# Altium schematic symbol library Tama_Schlib.SchLib: 34 symbols
Pins are listed as number, name and electrical type; pins without a type are passive.

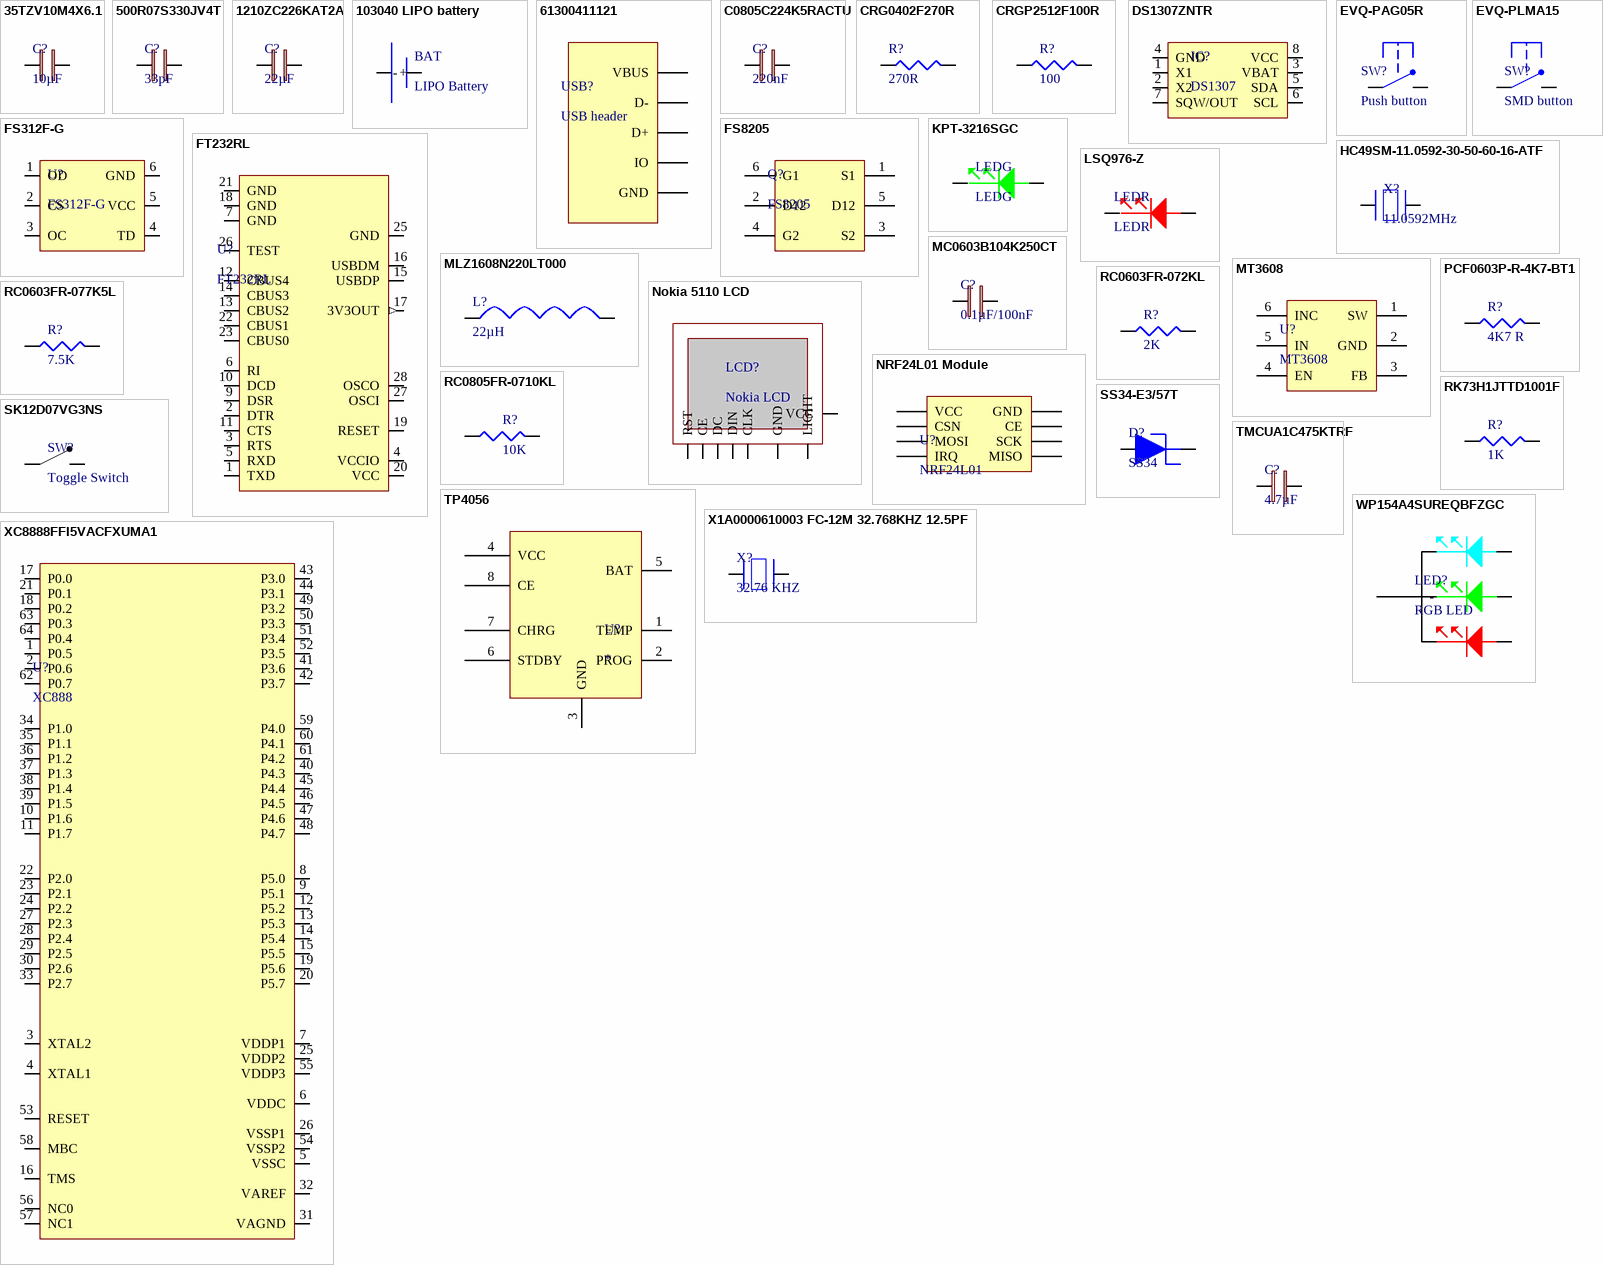
[diagram p0: symbols 35TZV10M4X6.1 to XC8888FFI5VACFXUMA1]

## 35TZV10M4X6.1
designator C?, comment 10µF
RUBYCON - 35TZV10M4X6.1 - KONDENSATOR, 10µF, 35V, RADIAL, SMD; Capacitance: 10uF; Tolerance: 20%; Ripple Current: 90mA; Impedance: 1.45R; Life (Hours): 2000Hour; Supplier 1: Newark; Manufacturer: Rubycon; Manufacturer Part Number: 35TZV10M4X6.1; RoHS: Yes; Category: Aluminum Electrolytic Capacitors; Stock 1: 365; Pricing 1: 5=0,37000, 10=0,25400, 25=0,21600, 50=0,17800, 100=0,15200 (USD); Mount: Surface Mount; Case/Package: Radial; Number of Pins: 2; Min Operating Temperature: -55°C; Max Operating Temperature: 105°C; Ripple Current (AC): 90mA; Packaging: Cut Tape; Package Quantity: 2000; Voltage Rating: 35V; Voltage Rating (DC): 35V; Series: TZV; Construction: Cylindrical; Diameter: 4mm; Height: 6.1mm; Height - Seated (Max): 0.24inch; Radiation Hardening: No; REACH SVHC: No SVHC; Lead Free: Lead Free; RoHS Compliant: Yes; ComponentLink1URL: https://datasheet.ciiva.com/26878/getdatasheetpartid-443596-26878330.pdf?src-supplier=Verical; ComponentLink1Description: https://datasheet.ciiva.com/26878/getdatasheetpartid-443596-26878330.pdf?src-supplier=Verical; ComponentLink2URL: https://datasheet.ciiva.com/17514/e-tzv-17514469.pdf?src-supplier=Avnet+Europe; ComponentLink2Description: https://datasheet.ciiva.com/17514/e-tzv-17514469.pdf?src-supplier=Avnet+Europe; ComponentLink3URL: https://datasheet.ciiva.com/22732/1725814-22732219.pdf?src-supplier=Element14; ComponentLink3Description: https://datasheet.ciiva.com/22732/1725814-22732219.pdf?src-supplier=Element14; Supplier Part Number 1: 08X5009
footprint ELCO (ELCO CAP)
pins: 1, 2

## 500R07S330JV4T
designator C?, comment 33pF
Cap Ceramic 33pF 50V C0G 5% Pad SMD 0402 125°C Ultra Low ESR T/R; Manufacturer: Johanson; Manufacturer Part Number: 500R07S330JV4T; Supplier 1: Newark; RoHS: Yes; Category: Ceramic Capacitors; Stock 1: 2779; Pricing 1: 1=0,22000, 10=0,15400, 25=0,12900, 50=0,10400, 100=0,07900 (USD); Mount: Surface Mount; Case/Package: 0402; Case Code (Metric): 1005; Case Code (Imperial): 0402; Min Operating Temperature: -55°C; Max Operating Temperature: 125°C; Dielectric: C0G; Capacitance: 33pF; Tolerance: 5%; Voltage Rating: 50V; Packaging: Tape and Reel; Voltage Rating (DC): 50V; Termination: SMD/SMT; Package Quantity: 1; Length: 1.02mm; Width: 0.02inch; Height: 0.64mm; Depth: 0.51mm; Thickness: 0.024inch; REACH SVHC: No SVHC; ComponentLink1URL: https://datasheet.ciiva.com/46417/1731432-46417670.pdf?src-supplier=Element14; ComponentLink1Description: https://datasheet.ciiva.com/46417/1731432-46417670.pdf?src-supplier=Element14; Supplier Part Number 1: 51Y5225
footprint 250R07S330JV4T (250R07S330JV4T - 0402 Capacitor)
pins: 1, 2

## 1210ZC226KAT2A
designator C?, comment 22µF
1210 22 uF 10 V ±10 % Tolerance X7R Surface Mount Multilayer Ceramic Capacitor; Manufacturer: Kyocera AVX; Manufacturer Part Number: 1210ZC226KAT2A; Capacitance: 22uF; Tolerance: 10%; Voltage Rating: 10V; Supplier 1: Newark; RoHS: Yes; Category: Ceramic Capacitors; Stock 1: 240; Pricing 1: 1=1,79000, 10=1,46000, 25=1,36000 (USD); Mount: Surface Mount; Case/Package: 1210; Number of Pins: 2; Case Code (Imperial): 1210; Case Code (Metric): 3225; Min Operating Temperature: -55°C; Max Operating Temperature: 125°C; Dielectric: X7R; Packaging: Tape and Reel; Package Quantity: 1; Termination: SMD/SMT; Voltage Rating (DC): 10V; Series: -; Voltage: 10V; Construction: Flat; Length: 3.2mm; Width: 0.098inch; Depth: 2.5mm; Thickness: 0.11inch; Radiation Hardening: No; REACH SVHC: Unknown; Lead Free: Lead Free; RoHS Compliant: Yes; ComponentLink1URL: https://datasheet.ciiva.com/11499/cx7r-11499965.pdf?src-supplier=Avnet; ComponentLink1Description: https://datasheet.ciiva.com/11499/cx7r-11499965.pdf?src-supplier=Avnet; ComponentLink2URL: https://datasheet.ciiva.com/28592/1679506-28592703.pdf?src-supplier=Element14; ComponentLink2Description: https://datasheet.ciiva.com/28592/1679506-28592703.pdf?src-supplier=Element14; ComponentLink3URL: https://datasheet.ciiva.com/5421/cx7r-5421062.pdf?src-supplier=Mouser; ComponentLink3Description: https://datasheet.ciiva.com/5421/cx7r-5421062.pdf?src-supplier=Mouser; ComponentLink4URL: https://datasheet.ciiva.com/14887/cx7r-14887591.pdf?src-supplier=Digi-Key; ComponentLink4Description: https://datasheet.ciiva.com/14887/cx7r-14887591.pdf?src-supplier=Digi-Key; ComponentLink5URL: https://datasheet.ciiva.com/28592/1679506-28592903.pdf?src-supplier=Element14; ComponentLink5Description: https://datasheet.ciiva.com/28592/1679506-28592903.pdf?src-supplier=Element14; ComponentLink6URL: https://datasheet.ciiva.com/14887/cx7r-14887593.pdf?src-supplier=Digi-Key; ComponentLink6Description: https://datasheet.ciiva.com/14887/cx7r-14887593.pdf?src-supplier=Digi-Key; ComponentLink7URL: https://datasheet.ciiva.com/7614/cx7r-7614701.pdf?src-supplier=Digi-Key; ComponentLink7Description: https://datasheet.ciiva.com/7614/cx7r-7614701.pdf?src-supplier=Digi-Key; ComponentLink8URL: https://datasheet.ciiva.com/11499/cx7r-11499966.pdf?src-supplier=Avnet; ComponentLink8Description: https://datasheet.ciiva.com/11499/cx7r-11499966.pdf?src-supplier=Avnet; ComponentLink9URL: https://datasheet.ciiva.com/16301/cx7r-16301534.pdf?src-supplier=Future+Electronics; ComponentLink9Description: https://datasheet.ciiva.com/16301/cx7r-16301534.pdf?src-supplier=Future+Electronics; Supplier Part Number 1: 95W9441
footprint 1210ZC226KAT2A (1210ZC226KAT2A - 1210 SMD capacitor)
pins: 1, 2

## 103040 LIPO battery
designator BAT, comment LIPO Battery
footprint LIPO battery pads
pins: 1 +, 2 -

## 61300411121
designator USB?, comment USB header
CONN HEADER 4 POS 2.54; Manufacturer: Wurth Electronics; Manufacturer Part Number: 61300411121; Number of Contacts: 4; Gender: Male; Connector Type: Male Pin; Pitch: 0.1inch; Supplier 1: RSComponents; RoHS: Yes; Category: Headers and Wire Housings; Stock 1: 380; Pricing 1: 5=0,19600, 250=0,08000, 500=0,07800, 2500=0,07500, 5000=0,07200 (USD); Mount: Through Hole; Contact Material: Copper; Color: Black; Contact Plating: Gold; Number of Rows: 1; Packaging: Bulk; Termination: Solder; Number of Positions: 4; Contact Mating Length: 0.236inch; REACH SVHC: Unknown; RoHS Compliant: Yes; Lead Free: Lead Free; ComponentLink1URL: http://www.farnell.com/cad/1737268.pdf?src-supplier=Element14; ComponentLink1Description: http://www.farnell.com/cad/1737268.pdf?src-supplier=Element14; ComponentLink2URL: https://katalog.we-online.de/em/datasheet/6130xx11121.pdf?src-supplier=Digi-Key; ComponentLink2Description: https://katalog.we-online.de/em/datasheet/6130xx11121.pdf?src-supplier=Digi-Key; Supplier Part Number 1: 8281594
footprint Micro USB - Type B
pins: 1 VBUS, 2 D-, 3 D+, 4 IO, 5 GND

## C0805C224K5RACTU
designator C?, comment 220nF
0805 C 220nF Ceramic Multilayer Capacitor; 50 VDC; +125degC; X7R Dielec; +/-10%; Manufacturer: KEMET; Manufacturer Part Number: C0805C224K5RACTU; Voltage Rating: 50V; Tolerance: 10%; Dissipation Factor: 2.5%; Supplier 1: RSComponents; RoHS: Yes; Category: Ceramic Capacitors; Stock 1: 18500; Pricing 1: 500=0,04800, 2500=0,03900 (USD); Mount: Surface Mount,PCB; Case/Package: 0805; Case Code (Metric): 2012; Case Code (Imperial): 0805; Dielectric Material: Ceramic; Min Operating Temperature: -55°C; Max Operating Temperature: 125°C; Package Quantity: 1; Capacitance: 220nF; Packaging: Tape and Reel; Voltage Rating (DC): 50V; Dielectric: X7R; Termination: SMD/SMT; Voltage: 50V; Series: C; Construction: Flat; Length: 2mm; Width: 0.049inch; Height: 1.1mm; Thickness: 0.055inch; Lead Pitch: 0.75mm; Depth: 1.25mm; Radiation Hardening: No; REACH SVHC: No SVHC; RoHS Compliant: Yes; ComponentLink1URL: https://datasheet.ciiva.com/7842/kem-c1002-x7r-smd-7842582.pdf?src-supplier=Element14; ComponentLink1Description: https://datasheet.ciiva.com/7842/kem-c1002-x7r-smd-7842582.pdf?src-supplier=Element14; ComponentLink2URL: https://datasheet.ciiva.com/18193/getdatasheetpartid-304413-18193686.pdf?src-supplier=Verical; ComponentLink2Description: https://datasheet.ciiva.com/18193/getdatasheetpartid-304413-18193686.pdf?src-supplier=Verical; Supplier Part Number 1: 8029927
footprint C0805C224K5RACTU (C0805C224K5RACTU - 0805 SMD Capacitor)
pins: 1, 2

## CRG0402F270R
designator R?, comment 270R
Res Thick Film 0402 270 Ohm 1% 0.063W(1/16W) ±100ppm/C Pad SMD T/R; Manufacturer: TE Connectivity; Manufacturer Part Number: CRG0402F270R; Temperature Coefficient: 100ppm/°C; Max Power Dissipation: 63mW; Voltage Rating: 50V; Number of Resistors: 1; Supplier 1: Newark; RoHS: Yes; Category: Chip SMD Resistors; Stock 1: 50238; Pricing 1: 1=0,00500, 10=0,00400, 25=0,00400, 50=0,00400, 100=0,00400 (USD); Mount: Surface Mount; Case/Package: 0402; Case Code (Imperial): 0402; Case Code (Metric): 1005; Weight: 2.3E-05oz; Min Operating Temperature: -55°C; Max Operating Temperature: 125°C; Packaging: Tape and Reel; Resistance: 270R; Tolerance: 1%; Resistor Type: Thick Film; Package Quantity: 10000; Number of Terminations: 2; Series: CRG, Neohm; Power Rating: 63mW; Termination: Solder; Voltage Rating (DC): 50V; Technology: THICK FILM; Resistance Tolerance: 1%; Length: 1mm; Width: 0.5mm; Height: 0.35mm; Depth: 0.5mm; RoHS Compliant: Yes; REACH SVHC: No SVHC; ELV: Compliant; ComponentLink1URL: https://datasheet.ciiva.com/11811/0900766b80d0914d-11811952.pdf?src-supplier=RSComponents; ComponentLink1Description: https://datasheet.ciiva.com/11811/0900766b80d0914d-11811952.pdf?src-supplier=RSComponents; ComponentLink2URL: https://datasheet.ciiva.com/12563/eng-ds-1773204-g-12563015.pdf?src-supplier=Mouser; ComponentLink2Description: https://datasheet.ciiva.com/12563/eng-ds-1773204-g-12563015.pdf?src-supplier=Mouser; ComponentLink3URL: https://datasheet.ciiva.com/22706/1610603-22706089.pdf?src-supplier=Element14; ComponentLink3Description: https://datasheet.ciiva.com/22706/1610603-22706089.pdf?src-supplier=Element14; ComponentLink4URL: https://datasheet.ciiva.com/17122/70063020-17122922.pdf?src-supplier=Allied+Electronics; ComponentLink4Description: https://datasheet.ciiva.com/17122/70063020-17122922.pdf?src-supplier=Allied+Electronics; Supplier Part Number 1: 95W7454
footprint CRG0402F (CRG0402F - 0402 SMD Resistor)
pins: 1, 2

## CRGP2512F100R
designator R?, comment 100
Res Thick Film 2512 100 Ohm 1% 2W ±100ppm/C Pad SMD T/R; Manufacturer: TE Connectivity; Manufacturer Part Number: CRGP2512F100R; Resistance: 100R; Temperature Coefficient: 200ppm/°C; Supplier 1: RSComponents; RoHS: Yes; Category: Resistors; Stock 1: 1; Pricing 1: 4000=0,10900, 12000=0,10100, 20000=0,09100 (USD); Case/Package: 2512; Case Code (Imperial): 2512; Case Code (Metric): 6432; Min Operating Temperature: -55°C; Max Operating Temperature: 155°C; Resistor Type: Thick Film; Packaging: Cut Tape; Tolerance: 1%; Max Power Dissipation: 2W; Number of Terminations: 2; RoHS Compliant: Yes; ComponentLink1URL: https://4donline.ihs.com/images/VipMasterIC/IC/TYEL/TYEL-S-A0005460475/TYEL-S-A0005460475-1.pdf?hkey=52A5661711E402568146F3353EA87419&src-supplier=Farnell; ComponentLink1Description: https://4donline.ihs.com/images/VipMasterIC/IC/TYEL/TYEL-S-A0005460475/TYEL-S-A0005460475-1.pdf?hkey=52A5661711E402568146F3353EA87419&src-supplier=Farnell; ComponentLink2URL: https://www.te.com/commerce/DocumentDelivery/DDEController?Action=srchrtrv&amp;DocNm=9-1773463-9&amp;DocType=DS&amp;DocLang=English&src-supplier=Digi-Key; ComponentLink2Description: https://www.te.com/commerce/DocumentDelivery/DDEController?Action=srchrtrv&amp;DocNm=9-1773463-9&amp;DocType=DS&amp;DocLang=English&src-supplier=Digi-Key; ComponentLink3URL: https://4donline.ihs.com/images/VipMasterIC/IC/TYEL/TYEL-S-A0005460475/TYEL-S-A0005460475-1.pdf?hkey=52A5661711E402568146F3353EA87419&src-supplier=Newark; ComponentLink3Description: https://4donline.ihs.com/images/VipMasterIC/IC/TYEL/TYEL-S-A0005460475/TYEL-S-A0005460475-1.pdf?hkey=52A5661711E402568146F3353EA87419&src-supplier=Newark; Supplier Part Number 1: 1764326
footprint CRGP2512 (CRGP 2512 - SMD Resistor)
pins: 1, 2

## DS1307ZNTR
designator IC?, comment DS1307
IC RTC SERIAL 512K IND 8-SOIC; Manufacturer: Maxim; Manufacturer Part Number: DS1307ZNTR; Logic Function: Clock; Time Format: HH:MM:SS; Operating Supply Voltage: 5V; Memory Size: 56B; Max Supply Voltage: 5.5V; Min Supply Voltage: 4.5V; Interface: I2C,Serial,2-Wire; Date Format: YY-MM-DD-dd; Voltage: 7V; Supplier 1: Digi-Key; RoHS: Yes; Category: Real Time Clocks; Mount: Surface Mount; Case/Package: SOIC; Number of Pins: 8; Weight: 0.019048oz; Contact Plating: Tin,Matte; Min Operating Temperature: -40°C; Max Operating Temperature: 85°C; Packaging: Tape and Reel; Package Quantity: 2500; Series: -; Radiation Hardening: No; Lead Free: Lead Free; REACH SVHC: Unknown; ComponentLink1URL: https://datasheet.ciiva.com/1243/ds1307-1243264.pdf?src-supplier=Digi-Key; ComponentLink1Description: https://datasheet.ciiva.com/1243/ds1307-1243264.pdf?src-supplier=Digi-Key; ComponentLink2URL: https://datasheet.ciiva.com/18633/ds1307-18633131.pdf?src-supplier=Digi-Key; ComponentLink2Description: https://datasheet.ciiva.com/18633/ds1307-18633131.pdf?src-supplier=Digi-Key; ComponentLink3URL: https://datasheet.ciiva.com/3304/ds1307-3304460.pdf?src-supplier=Avnet; ComponentLink3Description: https://datasheet.ciiva.com/3304/ds1307-3304460.pdf?src-supplier=Avnet; ComponentLink4URL: https://datasheet.ciiva.com/18633/ds1307-18633132.pdf?src-supplier=Digi-Key; ComponentLink4Description: https://datasheet.ciiva.com/18633/ds1307-18633132.pdf?src-supplier=Digi-Key; ComponentLink5URL: https://datasheet.ciiva.com/28652/1647366-28652551.pdf?src-supplier=Element14; ComponentLink5Description: https://datasheet.ciiva.com/28652/1647366-28652551.pdf?src-supplier=Element14; Supplier Part Number 1: DS1307ZN+T&R-ND
footprint DS1307
pins: 1 X1, 2 X2, 3 VBAT, 4 GND, 5 SDA, 6 SCL, 7 SQW/OUT, 8 VCC

## EVQ-PAG05R
designator SW?, comment Push button
Switch Tactile N.O. SPST Round Button PC Pins 0.02A 15VDC 2.6N Thru-Hole Bulk; Manufacturer: Panasonic; Manufacturer Part Number: EVQ-PAG05R; Mechanical Life: 50000Cycles; Actuator Color: Red; Max Voltage Rating (DC): 15V; Illumination Type: Non-Illuminated; Switch Function: Off-Mom; Actuator Type: Standard; Current Rating: 20mA; Contact Resistance: 50mR; Switch Travel: 0.25mm; Actuator Length: 1.6mm; Supplier 1: RSComponents; RoHS: Yes; Category: Tactile Switches; Stock 1: 1; Pricing 1: 50=0,24100, 500=0,18100 (USD); Mount: Through Hole; Contact Plating: Silver; Min Operating Temperature: -20°C; Max Operating Temperature: 70°C; Throw Configuration: SPST; Packaging: Bulk; Operating Force: 2.6N; Package Quantity: 500; Termination: PC Pin; Voltage Rating (DC): 15V; Max Current Rating: 20mA; Contact Current Rating: 20mA; Electrical Life: 50000Cycles; Orientation: Straight; Series: EVQPA; Length: 6mm; Width: 6mm; Height: 5mm; Depth: 6.5mm; Size: 6mm; Radiation Hardening: No; Lead Free: Lead Free; REACH SVHC: No SVHC; RoHS Compliant: Yes; ComponentLink1URL: https://datasheet.ciiva.com/1634/1520560-1634709.pdf?src-supplier=Farnell; ComponentLink1Description: https://datasheet.ciiva.com/1634/1520560-1634709.pdf?src-supplier=Farnell; ComponentLink2URL: https://datasheet.ciiva.com/25603/0900766b810ad3e5-25603994.pdf?src-supplier=RSComponents; ComponentLink2Description: https://datasheet.ciiva.com/25603/0900766b810ad3e5-25603994.pdf?src-supplier=RSComponents; ComponentLink3URL: https://datasheet.ciiva.com/1532/1520560-1532790.pdf?src-supplier=Element14; ComponentLink3Description: https://datasheet.ciiva.com/1532/1520560-1532790.pdf?src-supplier=Element14; ComponentLink4URL: https://datasheet.ciiva.com/24086/atk0000ce10-33274-24086442.pdf?src-supplier=Mouser; ComponentLink4Description: https://datasheet.ciiva.com/24086/atk0000ce10-33274-24086442.pdf?src-supplier=Mouser; ComponentLink5URL: https://datasheet.ciiva.com/2901/atk0000ce10-2901437.pdf?src-supplier=Digi-Key; ComponentLink5Description: https://datasheet.ciiva.com/2901/atk0000ce10-2901437.pdf?src-supplier=Digi-Key; ComponentLink6URL: https://datasheet.ciiva.com/30192/36atk0000ce10-30192373.pdf?src-supplier=Onlinecomponents.com; ComponentLink6Description: https://datasheet.ciiva.com/30192/36atk0000ce10-30192373.pdf?src-supplier=Onlinecomponents.com; ComponentLink7URL: https://datasheet.ciiva.com/8166/atk0000ce10-8166366.pdf?src-supplier=Avnet; ComponentLink7Description: https://datasheet.ciiva.com/8166/atk0000ce10-8166366.pdf?src-supplier=Avnet; ComponentLink8URL: https://datasheet.ciiva.com/16976/70270700-16976175.pdf?src-supplier=Allied+Electronics; ComponentLink8Description: https://datasheet.ciiva.com/16976/70270700-16976175.pdf?src-supplier=Allied+Electronics; Supplier Part Number 1: 7561543P
footprint Tactile button (thick button)
pins: 1, 2, 3, 4

## EVQ-PLMA15
designator SW?, comment SMD button
Switch Tactile N.O. SPST Round Button J-Bend 0.02A 15VDC 2.6N SMD Embossed Tape; Manufacturer: Panasonic; Manufacturer Part Number: EVQ-PLMA15; Mechanical Life: 200000Cycles; Max Voltage Rating (DC): 15V; Current Rating: 20mA; Contact Resistance: 50mR; Illumination Type: Non-Illuminated,Illuminated; Switch Travel: 0.25mm; Switch Function: Off-Mom; Actuator Type: Standard; Actuator Length: 0.3mm; Supplier 1: Newark; RoHS: Yes; Category: Tactile Switches; Stock 1: 5000; Pricing 1: 1=0,18600, 5000=0,18600, 10000=0,18000, 25000=0,17700, 50000=0,17500 (USD); Mount: Surface Mount; Contact Plating: Gold,Silver; Min Operating Temperature: -20°C; Max Operating Temperature: 70°C; Throw Configuration: SPST; Operating Force: 2.6N; Termination: J-Bend; Voltage Rating (DC): 15V; Packaging: Tape and Reel; Package Quantity: 1; Max Current Rating: 20mA; Electrical Life: 200000Cycles; Orientation: Straight; Contact Current Rating: 20mA; Voltage Rating: 15V; Insulation Resistance: 50MR; Length: 4.9mm; Width: 4.9mm; Height: 1.5mm; Depth: 4.9mm; Radiation Hardening: No; REACH SVHC: No SVHC; Lead Free: Lead Free; ComponentLink1URL: https://datasheet.ciiva.com/8164/atv0000ce2-8164994.pdf?src-supplier=Avnet; ComponentLink1Description: https://datasheet.ciiva.com/8164/atv0000ce2-8164994.pdf?src-supplier=Avnet; ComponentLink2URL: https://datasheet.ciiva.com/16205/atk0000ce3-16205767.pdf?src-supplier=Future+Electronics; ComponentLink2Description: https://datasheet.ciiva.com/16205/atk0000ce3-16205767.pdf?src-supplier=Future+Electronics; ComponentLink3URL: https://datasheet.ciiva.com/17065/70270715-17065721.pdf?src-supplier=Allied+Electronics; ComponentLink3Description: https://datasheet.ciiva.com/17065/70270715-17065721.pdf?src-supplier=Allied+Electronics; ComponentLink4URL: https://datasheet.ciiva.com/2899/atk0000ce3-2899834.pdf?src-supplier=Digi-Key; ComponentLink4Description: https://datasheet.ciiva.com/2899/atk0000ce3-2899834.pdf?src-supplier=Digi-Key; ComponentLink5URL: https://datasheet.ciiva.com/2899/atk0000ce3-2899835.pdf?src-supplier=Digi-Key; ComponentLink5Description: https://datasheet.ciiva.com/2899/atk0000ce3-2899835.pdf?src-supplier=Digi-Key; ComponentLink6URL: https://datasheet.ciiva.com/2899/atk0000ce3-2899836.pdf?src-supplier=Digi-Key; ComponentLink6Description: https://datasheet.ciiva.com/2899/atk0000ce3-2899836.pdf?src-supplier=Digi-Key; ComponentLink7URL: https://datasheet.ciiva.com/26827/getdatasheetpartid-51835-26827884.pdf?src-supplier=Verical; ComponentLink7Description: https://datasheet.ciiva.com/26827/getdatasheetpartid-51835-26827884.pdf?src-supplier=Verical; Supplier Part Number 1: 27AC5577
footprint TACTILE BUTTON - duplicate (Tactile button small)
pins: 1, 2, 3, 4

## FS312F-G
designator U?
Lithium battery protection IC; Category: Protection IC; Case/Package: SOT23-6
footprint SOT95P280X145-6N (SOT23, 6-Leads - FS8205)
pins: 1 OD, 2 CS, 3 OC, 4 TD, 5 VCC, 6 GND

## FS8205
designator Q?
Dual N-Channel Enhancement Mode Power MOSFET; Case/Package: SOT23-6
footprint SOT95P280X145-6N (SOT23, 6-Leads - FS8205)
pins: 1 S1, 2 D12, 3 S2, 4 G2, 5 D12, 6 G1

## FT232RL
designator U?
Usb Interface Ics Usb to Serial Uart 28 Pin SSOP; Manufacturer: FTDI; Min Supply Voltage: 1.8V; Max Supply Voltage: 5.25V; Data Rate: 3Mbps; Number of Drivers: 1; Voltage: 5V; Bandwidth: 48MHz; Nominal Supply Current: 15mA; Supplier 1: RSComponents; Manufacturer Part Number: FT232RL; RoHS: No; Category: Interface ICs; Stock 1: 12; Pricing 1: 1=4,97300, 20=4,11500, 100=3,90000, 500=3,61900, 1000=3,55200 (USD); Mount: Surface Mount; Case/Package: SSOP; Number of Pins: 28; Min Operating Temperature: -40°C; Max Operating Temperature: 85°C; Packaging: Cut Tape; Interface: UART; Number of Receivers: 1; Length: 10.2mm; Width: 5.3mm; Height: 1.75mm; REACH SVHC: No SVHC; Lead Free: Lead Free; ComponentLink1URL: https://datasheet.ciiva.com/14094/ft232r-eng-tds-14094039.pdf?src-supplier=Distrelec; ComponentLink1Description: https://datasheet.ciiva.com/14094/ft232r-eng-tds-14094039.pdf?src-supplier=Distrelec; Supplier Part Number 1: 0406580
footprint SSOP28 (SSOP28 - FTDI)
pins: 1 TXD, 2 DTR, 3 RTS, 4 VCCIO, 5 RXD, 6 RI, 7 GND, 9 DSR, 10 DCD, 11 CTS, 12 CBUS4, 13 CBUS2, 14 CBUS3, 15 USBDP, 16 USBDM, 17 3V3OUT (out), 18 GND, 19 RESET, 20 VCC, 21 GND, 22 CBUS1, 23 CBUS0, 25 GND, 26 TEST, 27 OSCI, 28 OSCO

## HC49SM-11.0592-30-50-60-16-ATF
designator X?, comment 11.0592MHz
Crystal 11.0592MHz 16pF 2-Pin HC-49/U Loose; Manufacturer: Multicomp; Manufacturer Part Number: HC49SM-11.0592-30-50-60-16-ATF; Frequency Stability: 50ppm; Accuracy: 30ppm; Supplier 1: Newark; RoHS: Yes; Category: Crystals; Stock 1: 597; Pricing 1: 1=0,35400, 10=0,34000, 50=0,31600, 100=0,28300, 250=0,26100, 500=0,24300 (USD); Mount: Surface Mount; Case/Package: SMD/SMT; Number of Pins: 2; Min Operating Temperature: -10°C; Max Operating Temperature: 60°C; Load Capacitance: 16pF; Frequency: 11.0592MHz; Frequency Tolerance: 30ppm; Packaging: Cut Tape; REACH SVHC: No SVHC; ComponentLink1URL: https://datasheet.ciiva.com/8049/1661828-8049574.pdf?src-supplier=Element14; ComponentLink1Description: https://datasheet.ciiva.com/8049/1661828-8049574.pdf?src-supplier=Element14; ComponentLink2URL: https://datasheet.ciiva.com/22697/1661828-22697926.pdf?src-supplier=Element14; ComponentLink2Description: https://datasheet.ciiva.com/22697/1661828-22697926.pdf?src-supplier=Element14; Supplier Part Number 1: 33P6975
footprint HC-49/SM (Crystal 11.0592MHz)
pins: 1, 2

## KPT-3216SGC
designator LEDG, comment LEDG
LED Uni-Color SB. Green 565nm 2-Pin Chip LED T/R; Manufacturer: Kingbright; Manufacturer Part Number: KPT-3216SGC; Lens Color: Clear; Lens Style: Rectangular,Diffused,Colorless; Viewing Angle: 120°; Number of LEDs: 1; Luminous Intensity: 12mcd; Forward Voltage: 2.2V; Wavelength: 568nm; Forward Current: 20mA; Supplier 1: RSComponents; RoHS: Yes; Category: LEDs; Stock 1: 1; Pricing 1: 100=0,14200, 500=0,13500, 1000=0,11800, 2000=0,10700, 8000=0,10500 (USD); Mount: Surface Mount; Case/Package: 3216; Number of Pins: 2; Color: Green; Packaging: Tape and Reel; Dominant Wavelength: 568nm; Series: 1206; Radiation Hardening: No; REACH SVHC: No SVHC; RoHS Compliant: Yes; ComponentLink1URL: https://datasheet.ciiva.com/23674/1563720-23674567.pdf?src-supplier=Newark; ComponentLink1Description: https://datasheet.ciiva.com/23674/1563720-23674567.pdf?src-supplier=Newark; Supplier Part Number 1: 8610204P
footprint KPT-3216SGC (SMD led)
pins: 1 +, 2

## LSQ976-Z
designator LEDR, comment LEDR
Led, SMD, Red, 180MCD, 633NM; Manufacturer: Osram Opto; Manufacturer Part Number: LSQ976-Z; Forward Current: 20mA; Viewing Angle: 160°; Forward Voltage: 2V; Lens Style: Rectangular,Diffused,Colorless; Number of LEDs: 1; Supplier 1: Avnet; RoHS: Yes; Category: LEDs; Mount: Surface Mount; Number of Pins: 2; Color: Red; Dominant Wavelength: 633nm; Wavelength: 633nm; Luminous Intensity: 180mcd; Packaging: Cut Tape; REACH SVHC: No SVHC; ComponentLink1URL: https://datasheet.ciiva.com/8060/24682-8060069.pdf?src-supplier=Element14; ComponentLink1Description: https://datasheet.ciiva.com/8060/24682-8060069.pdf?src-supplier=Element14; ComponentLink2URL: https://datasheet.ciiva.com/8060/24682-8060070.pdf?src-supplier=Element14; ComponentLink2Description: https://datasheet.ciiva.com/8060/24682-8060070.pdf?src-supplier=Element14; Supplier Part Number 1: LSQ976-Z
footprint LSQ976-Z (SMD - Led)
pins: 1 +, 2

## MC0603B104K250CT
designator C?, comment 0.1µF/100nF
Cap Ceramic 0.1uF 25V X7R 10% Pad SMD 0603 125C T/R; Manufacturer: Multicomp; Manufacturer Part Number: MC0603B104K250CT; Capacitance: 100nF; Supplier 1: Newark; RoHS: Yes; Category: Ceramic Capacitors; Stock 1: 124000; Pricing 1: 1=0,00300, 4000=0,00300, 8000=0,00300, 20000=0,00300 (USD); Case/Package: 0603; Number of Pins: 2; Case Code (Metric): 1608; Case Code (Imperial): 0603; Min Operating Temperature: -55°C; Max Operating Temperature: 125°C; Tolerance: 10%; Packaging: Cut Tape; Voltage Rating: 25V; Dielectric: X7R; Voltage Rating (DC): 25V; Series: MLCC; Width: 0.8mm; REACH SVHC: Unknown; RoHS Compliant: Yes; ComponentLink1URL: https://datasheet.ciiva.com/22686/1901289-22686277.pdf?src-supplier=Element14; ComponentLink1Description: https://datasheet.ciiva.com/22686/1901289-22686277.pdf?src-supplier=Element14; ComponentLink2URL: https://datasheet.ciiva.com/22648/1901289-22648410.pdf?src-supplier=Element14; ComponentLink2Description: https://datasheet.ciiva.com/22648/1901289-22648410.pdf?src-supplier=Element14; Supplier Part Number 1: 94W8728
footprint MC0603B104K250CT (0603 Capacitor)
pins: 1, 2

## MLZ1608N220LT000
designator L?, comment 22µH
Inductor Power Shielded Multi-Layer 22uH 20% 2MHz Ferrite 0.05A 2.145Ohm DCR 0603 T/R; Manufacturer: TDK; Manufacturer Part Number: MLZ1608N220LT000; Saturation Current: 50mA; DC Resistance (DCR): 2.145R; Current Rating: 300mA; Supplier 1: Arrow Electronics; RoHS: Yes; Category: Fixed Inductors; Stock 1: 3800; Pricing 1: 1=0,15380, 10=0,10450, 25=0,10350, 100=0,08320, 250=0,08240, 500=0,07410, 1000=0,06230, 3000=0,06170 (USD); Mount: Surface Mount; Case/Package: 0603; Case Code (Metric): 1608; Case Code (Imperial): 0603; Core Material: Ferrite; Weight: 0.000141oz; Min Operating Temperature: -55°C; Max Operating Temperature: 125°C; Packaging: Tape and Reel; Inductance: 22uH; Package Quantity: 4000; Tolerance: 20%; Shielding: Shielded; Test Frequency: 2MHz; Termination: SMD/SMT; Length: 0.063inch; Width: 0.031inch; Height: 0.8mm; Height - Seated (Max): 0.037inch; Lead Free: Lead Free; RoHS Compliant: Yes; ComponentLink1URL: https://datasheet.ciiva.com/41832/inductor-commercial-decoupling-mlz-en-41832797.pdf?src-supplier=Digi-Key; ComponentLink1Description: https://datasheet.ciiva.com/41832/inductor-commercial-decoupling-mlz-en-41832797.pdf?src-supplier=Digi-Key; Supplier Part Number 1: MLZ1608N220LT000
footprint MLZ1608 (1608 - Inductor)
pins: 1, 2

## MT3608
designator U?
Voltage regulator; Case/Package: SOT23-6; Category: Voltage regulator
footprint SOT23-6
pins: 1 SW, 2 GND, 3 FB, 4 EN, 5 IN, 6 INC

## Nokia 5110 LCD
designator LCD?, comment Nokia LCD
Nokia 5110 LCD; Category: LCD Display
footprint LCD header
pins: 1 RST, 2 CE, 3 DC, 4 DIN, 5 CLK, 6 VCC, 7 LIGHT, 8 GND

## NRF24L01 Module
designator U?, comment NRF24L01
footprint NRF header (8 pin NRF header)
pins: 1 VCC, 2 GND, 3 CSN, 4 CE, 5 MOSI, 6 SCK, 7 IRQ, 8 MISO

## PCF0603P-R-4K7-BT1
designator R?, comment 4K7 R
Surface Mount Metal Film Resistor, Pcf Series, 4.7 Kohm, 63 Mw, - 0.1%, 75 V Rohs Compliant: Yes; Manufacturer: TT Welwyn; Manufacturer Part Number: PCF0603P-R-4K7-BT1; Power Rating: 63mW; Voltage Rating: 75V; Resistance: 4.7kR; Temperature Coefficient: 25ppm/°C; Case/Category: 0603; Supplier 1: Newark; RoHS: Yes; Category: Chip SMD Resistors; Stock 1: 1027; Pricing 1: 10=0,17900 (USD); Case Code (Imperial): 0603; Case Code (Metric): 1608; Tolerance: 0.1%; Packaging: Cut Tape; Resistor Type: Thin Film; Voltage Rating (DC): 75V; REACH SVHC: No SVHC; ComponentLink1URL: https://datasheet.ciiva.com/7860/3754-7860191.pdf?src-supplier=Element14; ComponentLink1Description: https://datasheet.ciiva.com/7860/3754-7860191.pdf?src-supplier=Element14; ComponentLink2URL: https://datasheet.ciiva.com/6093/3754-6093381.pdf?src-supplier=Farnell; ComponentLink2Description: https://datasheet.ciiva.com/6093/3754-6093381.pdf?src-supplier=Farnell; Supplier Part Number 1: 61M8292
footprint PCF0603 (PCF0603 SMD Resistor)
pins: 1, 2

## RC0603FR-072KL
designator R?, comment 2K
2000Ω ± 1.00% 0.1W ± 100ppm/℃ 0603; Manufacturer: Yageo; Manufacturer Part Number: RC0603FR-072KL; Resistance: 2kR; Tolerance: 1%; Temperature Coefficient: 100ppm/°C; Voltage Rating (DC): 50V; Power Rating: 100mW; Working Voltage: 75V; Supplier 1: RSComponents; RoHS: Yes; Category: Resistors; Stock 1: 1700; Pricing 1: 5000=0,00400, 10000=0,00300, 15000=0,00300, 20000=0,00300 (GBP); Case/Package: 0603; Number of Pins: 2; Case Code (Metric): 1608; Case Code (Imperial): 0603; Min Operating Temperature: -55°C; Max Operating Temperature: 155°C; Resistor Type: Thick Film; Packaging: Tape and Reel; Voltage Rating: 50V; Package Quantity: 1; Number of Terminations: 2; Termination: SMD/SMT; Max Power Dissipation: 100mW; Features: Moisture Resistant; Series: RC; Resistance Tolerance: 1%; Technology: THICK FILM; Construction: Rectangular; Length: 1.6mm; Width: 0.031inch; Height: 0.45mm; Depth: 0.8mm; Lead Free: Lead Free; REACH SVHC: No SVHC; Military Standard: Not; RoHS Compliant: Yes; ComponentLink1URL: https://datasheet.ciiva.com/11808/0900766b80f96399-11808134.pdf?src-supplier=RSComponents; ComponentLink1Description: https://datasheet.ciiva.com/11808/0900766b80f96399-11808134.pdf?src-supplier=RSComponents; ComponentLink2URL: https://datasheet.ciiva.com/22747/443971-22747526.pdf?src-supplier=Element14; ComponentLink2Description: https://datasheet.ciiva.com/22747/443971-22747526.pdf?src-supplier=Element14; ComponentLink3URL: https://datasheet.ciiva.com/2453/pyu-r-int-thick-7-2453913.pdf?src-supplier=Digi-Key; ComponentLink3Description: https://datasheet.ciiva.com/2453/pyu-r-int-thick-7-2453913.pdf?src-supplier=Digi-Key; ComponentLink4URL: https://datasheet.ciiva.com/12555/rc0603-272842-12555257.pdf?src-supplier=Mouser; ComponentLink4Description: https://datasheet.ciiva.com/12555/rc0603-272842-12555257.pdf?src-supplier=Mouser; ComponentLink5URL: https://datasheet.ciiva.com/2453/pyu-r-int-thick-7-2453914.pdf?src-supplier=Digi-Key; ComponentLink5Description: https://datasheet.ciiva.com/2453/pyu-r-int-thick-7-2453914.pdf?src-supplier=Digi-Key; ComponentLink6URL: https://datasheet.ciiva.com/2453/pyu-r-int-thick-7-2453915.pdf?src-supplier=Digi-Key; ComponentLink6Description: https://datasheet.ciiva.com/2453/pyu-r-int-thick-7-2453915.pdf?src-supplier=Digi-Key; Supplier Part Number 1: 1995523
footprint RC0603FR-072KL (Chip Resistor, 2-Leads, Body 1,60x0,80mm, IPC Medium Density)
pins: 1, 2

## RC0603FR-077K5L
designator R?, comment 7.5K
7500Ω ± 1.00% 0.1W ± 100ppm/℃ 0603; Manufacturer: Yageo; Manufacturer Part Number: RC0603FR-077K5L; Resistance: 7.5kR; Power Rating: 100mW; Tolerance: 1%; Voltage Rating: 50V; Temperature Coefficient: 100ppm/°C; Working Voltage: 75V; Supplier 1: Newark; RoHS: Yes; Category: Chip SMD Resistors; Stock 1: 2709; Pricing 1: 1=0,10000, 25=0,01800, 50=0,01300, 100=0,00700 (USD); Case/Package: 0603; Number of Pins: 2; Case Code (Metric): 1608; Case Code (Imperial): 0603; Min Operating Temperature: -55°C; Max Operating Temperature: 155°C; Package Quantity: 1; Packaging: Tape and Reel; Resistor Type: Thick Film; Number of Terminations: 2; Termination: SMD/SMT; Max Power Dissipation: 100mW; Voltage Rating (DC): 50V; Features: Moisture Resistant; Series: RC; Technology: THICK FILM; Construction: Rectangular; Resistance Tolerance: 1%; Length: 1.6mm; Width: 0.031inch; Height: 0.45mm; Depth: 0.8mm; RoHS Compliant: Yes; REACH SVHC: No SVHC; Military Standard: Not; Lead Free: Lead Free; ComponentLink1URL: https://datasheet.ciiva.com/11808/0900766b80f96399-11808401.pdf?src-supplier=RSComponents; ComponentLink1Description: https://datasheet.ciiva.com/11808/0900766b80f96399-11808401.pdf?src-supplier=RSComponents; ComponentLink2URL: https://datasheet.ciiva.com/2519/pyu-r-int-thick-7-2519120.pdf?src-supplier=Digi-Key; ComponentLink2Description: https://datasheet.ciiva.com/2519/pyu-r-int-thick-7-2519120.pdf?src-supplier=Digi-Key; ComponentLink3URL: https://datasheet.ciiva.com/12555/rc0603-272842-12555256.pdf?src-supplier=Mouser; ComponentLink3Description: https://datasheet.ciiva.com/12555/rc0603-272842-12555256.pdf?src-supplier=Mouser; ComponentLink4URL: https://datasheet.ciiva.com/46395/443971-46395019.pdf?src-supplier=Element14; ComponentLink4Description: https://datasheet.ciiva.com/46395/443971-46395019.pdf?src-supplier=Element14; ComponentLink5URL: https://datasheet.ciiva.com/2519/pyu-r-int-thick-7-2519121.pdf?src-supplier=Digi-Key; ComponentLink5Description: https://datasheet.ciiva.com/2519/pyu-r-int-thick-7-2519121.pdf?src-supplier=Digi-Key; ComponentLink6URL: https://datasheet.ciiva.com/2519/pyu-r-int-thick-7-2519122.pdf?src-supplier=Digi-Key; ComponentLink6Description: https://datasheet.ciiva.com/2519/pyu-r-int-thick-7-2519122.pdf?src-supplier=Digi-Key; ComponentLink7URL: https://datasheet.ciiva.com/15189/getdatasheetpartid-326523-15189821.pdf?src-supplier=Verical; ComponentLink7Description: https://datasheet.ciiva.com/15189/getdatasheetpartid-326523-15189821.pdf?src-supplier=Verical; Supplier Part Number 1: 68R0113
footprint RC0603FR-072KL (Chip Resistor, 2-Leads, Body 1,60x0,80mm, IPC Medium Density)
pins: 1, 2

## RC0805FR-0710KL
designator R?, comment 10K
Res SMD 0805 10K 1% 0.125W T.C.100PPM; Manufacturer: Yageo; Manufacturer Part Number: RC0805FR-0710KL; Resistance: 10kR; Power Rating: 125mW; Voltage Rating: 150V; Temperature Coefficient: 100ppm/°C; Supplier 1: RSComponents; RoHS: Yes; Category: Resistors; Stock 1: 435000; Pricing 1: 5000=0,00700 (USD); Case/Package: 0805; Case Code (Imperial): 0805; Case Code (Metric): 2012; Size Code: 0805; Min Operating Temperature: -55°C; Max Operating Temperature: 155°C; Packaging: Tape and Reel; Tolerance: 1%; Package Quantity: 1; Termination: SMD/SMT; Max Power Dissipation: 125mW; Resistor Type: Thick Film; Number of Terminations: 2; Series: RC; Construction: Rectangular; Resistance Tolerance: 1%; Technology: THICK FILM; Features: Moisture Resistant; Length: 2mm; Width: 0.049inch; Height: 0.024inch; Depth: 1.25mm; REACH SVHC: Unknown; Lead Free: Lead Free; Military Standard: Not; RoHS Compliant: Yes; ComponentLink1URL: https://datasheet.ciiva.com/11808/0900766b8106beab-11808151.pdf?src-supplier=RSComponents; ComponentLink1Description: https://datasheet.ciiva.com/11808/0900766b8106beab-11808151.pdf?src-supplier=RSComponents; ComponentLink2URL: https://datasheet.ciiva.com/12669/rc0805-12669688.pdf?src-supplier=Mouser; ComponentLink2Description: https://datasheet.ciiva.com/12669/rc0805-12669688.pdf?src-supplier=Mouser; ComponentLink3URL: https://datasheet.ciiva.com/46447/444164-46447563.pdf?src-supplier=Element14; ComponentLink3Description: https://datasheet.ciiva.com/46447/444164-46447563.pdf?src-supplier=Element14; ComponentLink4URL: https://datasheet.ciiva.com/2456/pyu-r-int-thick-7-2456972.pdf?src-supplier=Digi-Key; ComponentLink4Description: https://datasheet.ciiva.com/2456/pyu-r-int-thick-7-2456972.pdf?src-supplier=Digi-Key; ComponentLink5URL: https://datasheet.ciiva.com/2456/pyu-r-int-thick-7-2456973.pdf?src-supplier=Digi-Key; ComponentLink5Description: https://datasheet.ciiva.com/2456/pyu-r-int-thick-7-2456973.pdf?src-supplier=Digi-Key; ComponentLink6URL: https://datasheet.ciiva.com/2456/pyu-r-int-thick-7-2456974.pdf?src-supplier=Digi-Key; ComponentLink6Description: https://datasheet.ciiva.com/2456/pyu-r-int-thick-7-2456974.pdf?src-supplier=Digi-Key; ComponentLink7URL: https://datasheet.ciiva.com/16747/rc0805-16747087.pdf?src-supplier=Future+Electronics; ComponentLink7Description: https://datasheet.ciiva.com/16747/rc0805-16747087.pdf?src-supplier=Future+Electronics; Supplier Part Number 1: 6185163; Parameter 1: *
footprint RC0805 (Chip Resistor, 2-Leads, Body 2,00x1,25mm, IPC Medium Density)
pins: 1, 2

## RK73H1JTTD1001F
designator R?, comment 1K
1KΩ ±1% 1/8W ±100ppm/℃ 0603; Manufacturer: KOA Speer; Manufacturer Part Number: RK73H1JTTD1001F; Voltage Rating: 75V; Power Rating: 125mW; Resistance: 1kR; Temperature Coefficient: 100ppm/°C; Voltage Rating (DC): 50V; Supplier 1: Arrow Electronics; RoHS: Yes; Category: Resistors; Stock 1: 1; Pricing 1: 1=0,04800 (USD); Case/Package: 0603; Number of Pins: 2; Case Code (Imperial): 0603; Case Code (Metric): 1608; Weight: 0.000811oz; Min Operating Temperature: -55°C; Max Operating Temperature: 155°C; Packaging: Cut Tape; Package Quantity: 5000; Tolerance: 1%; Resistor Type: Thick Film; Termination: SMD/SMT; Series: RK73H; Technology: THICK FILM; Length: 1.6mm; Width: 0.8mm; Height: 0.45mm; Depth: 0.8mm; Military Standard: Not; REACH SVHC: Unknown; Lead Free: Lead Free; RoHS Compliant: Yes; ComponentLink1URL: https://datasheet.ciiva.com/15159/getdatasheetpartid-87490-15159861.pdf?src-supplier=Verical; ComponentLink1Description: https://datasheet.ciiva.com/15159/getdatasheetpartid-87490-15159861.pdf?src-supplier=Verical; ComponentLink2URL: https://datasheet.ciiva.com/48426/rk73h-series-eng-jap-tds-48426519.pdf?src-supplier=Distrelec; ComponentLink2Description: https://datasheet.ciiva.com/48426/rk73h-series-eng-jap-tds-48426519.pdf?src-supplier=Distrelec; Supplier Part Number 1: RK73H1JTTD1001F
footprint RK73H-0603 (RK73H 0603 SMD Resistor)
pins: 1, 2

## SK12D07VG3NS
designator SW?, comment Toggle Switch
C&K SK-12D07-VG 3 NS Switches > Slide > Miniature > Mini R/A Slide; Manufacturer: ITT C&K; Manufacturer Part Number: SK12D07VG3NS; Supplier 1: Digi-Key; RoHS: No; Category: Uncategorized; Pricing 1: 30000=0,24375 (USD); Package Quantity: 1000; ComponentLink1URL: http://www.mouser.com/ds/2/60/sk-965380.pdf?src-supplier=Mouser; ComponentLink1Description: http://www.mouser.com/ds/2/60/sk-965380.pdf?src-supplier=Mouser; ComponentLink2URL: https://www.ckswitches.com/media/1432/sk.pdf?src-supplier=Digi-Key; ComponentLink2Description: https://www.ckswitches.com/media/1432/sk.pdf?src-supplier=Digi-Key; Supplier Part Number 1: SK12D07VG3NS-ND
footprint SMD Switch (SMD slide switch)
pins: 1, 2

## SS34-E3/57T
designator D?, comment SS34
DIODE SCHOTTKY 40V 3A DO214AB; Manufacturer: Vishay Semiconductors; Manufacturer Part Number: SS34-E3/57T; Forward Voltage: 500mV; Element Configuration: Single; Max Forward Surge Current (Ifsm): 100A; Max Reverse Current: 500uA; Polarity: Standard; Supplier 1: RSComponents; RoHS: Yes; Category: Rectifier Diodes; Stock 1: 1120; Pricing 1: 20=0,52900, 180=0,38200, 420=0,36100 (USD); Mount: Surface Mount; Case/Package: SMC; Number of Pins: 2; Contact Plating: Tin,Matte; Min Operating Temperature: -55°C; Max Operating Temperature: 125°C; Packaging: Tape and Reel; Forward Current: 3A; Max Repetitive Reverse Voltage (Vrrm): 40V; Max Surge Current: 100A; Package Quantity: 1; Average Rectified Current: 3A; Max Reverse Leakage Current: 500uA; Peak Non-Repetitive Surge Current: 100A; Voltage Rating (DC): 40V; Current Rating: 3A; Output Current: 3A; Current: 3A; Voltage: 40V; Max Reverse Voltage (DC): 40V; Length: 7.11mm; Width: 6.22mm; Height: 2.417mm; Radiation Hardening: No; REACH SVHC: Unknown; Lead Free: Lead Free; ComponentLink1URL: https://datasheet.ciiva.com/15144/getdatasheetpartid-73598-15144471.pdf?src-supplier=Verical; ComponentLink1Description: https://datasheet.ciiva.com/15144/getdatasheetpartid-73598-15144471.pdf?src-supplier=Verical; ComponentLink2URL: https://datasheet.ciiva.com/4244/ss32-4244863.pdf?src-supplier=Arrow+Electronics; ComponentLink2Description: https://datasheet.ciiva.com/4244/ss32-4244863.pdf?src-supplier=Arrow+Electronics; ComponentLink3URL: https://datasheet.ciiva.com/17077/ss34-e3-57t-17077951.pdf?src-supplier=Allied+Electronics; ComponentLink3Description: https://datasheet.ciiva.com/17077/ss34-e3-57t-17077951.pdf?src-supplier=Allied+Electronics; ComponentLink4URL: https://datasheet.ciiva.com/26788/ss34-e3-57t-26788786.pdf?src-supplier=IIIC; ComponentLink4Description: https://datasheet.ciiva.com/26788/ss34-e3-57t-26788786.pdf?src-supplier=IIIC; ComponentLink5URL: https://datasheet.ciiva.com/26295/1697107-26295413.pdf?src-supplier=Element14; ComponentLink5Description: https://datasheet.ciiva.com/26295/1697107-26295413.pdf?src-supplier=Element14
footprint 1N5822 (1N5822 - SS34)
pins: 1, 2

## TMCUA1C475KTRF
designator C?, comment 4.7µF
Cap Tant Solid 4.7uF 16V UA CASE 10% (3.2 X 1.6 X 1.2mm) Inward L SMD 3216-12 4 Ohm 125C T/R; Manufacturer: Vishay; Manufacturer Part Number: TMCUA1C475KTRF; ESR (Equivalent Series Resistance): 4R; Case/Category: 1206; Supplier 1: RSComponents; RoHS: Yes; Category: Tantalum Capacitors; Stock 1: 1; Pricing 1: 3000=0,10600, 6000=0,10300 (USD); Mount: Surface Mount; Case Code (Metric): 3216; Case Code (Imperial): 1206; Min Operating Temperature: -55°C; Max Operating Temperature: 125°C; Capacitance: 4.7uF; Voltage Rating: 16V; Packaging: Cut Tape; Tolerance: 10%; Voltage Rating (DC): 16V; REACH SVHC: Unknown; RoHS Compliant: Yes; ComponentLink1URL: http://www.farnell.com/datasheets/1948249.pdf?src-supplier=Farnell; ComponentLink1Description: http://www.farnell.com/datasheets/1948249.pdf?src-supplier=Farnell; ComponentLink2URL: http://www.farnell.com/datasheets/1948249.pdf?src-supplier=Element14; ComponentLink2Description: http://www.farnell.com/datasheets/1948249.pdf?src-supplier=Element14; Supplier Part Number 1: 1882042
footprint TMCUA1C475KTRF (TMCUA1C475KTRF - Molded Capacitor, 2-Leads)
pins: 1, 2 +

## TP4056
designator U?
Category: Battery Management; Case/Package: ESOP8
footprint HSOP08 (SOP8 - TP4056)
pins: 1 TEMP, 2 PROG, 3 GND, 4 VCC, 5 BAT, 6 STDBY, 7 CHRG, 8 CE

## WP154A4SUREQBFZGC
designator LED?, comment RGB LED
Hyper Red/Green/Blue 50º Water Clear Full Color LED Lamp - T-1 3/4; Manufacturer: Kingbright; Manufacturer Part Number: WP154A4SUREQBFZGC; Color: Blue,Green,Red; Forward Voltage: 4V; Viewing Angle: 60°; Luminous Intensity: 500mcd; Lens Style: Dome; Test Current: 20mA; Dominant Wavelength: 465nm; Power Rating: 120mW; Reverse Voltage (DC): 5V; Supplier 1: Digi-Key; RoHS: Yes; Category: LEDs; Stock 1: 39551; Pricing 1: 1=1,98000, 10=1,25100, 100=0,92560, 500=0,85054, 1000=0,70800 (USD); Mount: Through Hole; Case/Package: Radial; Weight: 0.01411oz; Min Operating Temperature: -40°C; Max Operating Temperature: 85°C; Packaging: Bulk; Package Quantity: 500; Forward Current: 20mA; Lens Transparency: Clear; Operating Supply Voltage: 4V; Height: 8.6mm; RoHS Compliant: Yes; Lead Free: Lead Free; ComponentLink1URL: https://datasheet.ciiva.com/6349/wp154a4sureqbfzgc-6349426.pdf?src-supplier=Digi-Key; ComponentLink1Description: https://datasheet.ciiva.com/6349/wp154a4sureqbfzgc-6349426.pdf?src-supplier=Digi-Key; ComponentLink2URL: https://datasheet.ciiva.com/13501/wp154a4sureqbfzgc-194997-13501708.pdf?src-supplier=Mouser; ComponentLink2Description: https://datasheet.ciiva.com/13501/wp154a4sureqbfzgc-194997-13501708.pdf?src-supplier=Mouser; Supplier Part Number 1: 754-1615-ND
footprint 4 PIN - RGB LED
pins: 1, 2 - "Cathode", 3, 4

## X1A0000610003 FC-12M 32.768KHZ 12.5PF
designator X?, comment 32.76 KHZ
Crystal, FC-12M, 32.768 Khz, 12.5 Pf; Manufacturer: Epson; Manufacturer Part Number: X1A0000610003 FC-12M 32.768KHZ 12.5PF; Load Capacitance: 12.5pF; Capacitance: 1.25E-11F; Supplier 1: Farnell; RoHS: Yes; Stock 1: 2323; Pricing 1: 1=1,08000, 50=0,92000, 100=0,87600, 250=0,81700, 500=0,77000 (GBP); Mount: Surface Mount; Number of Pins: 2; Min Operating Temperature: -40°C; Max Operating Temperature: 85°C; Frequency: 32.768kHz; Packaging: Cut Tape; REACH SVHC: Unknown; ComponentLink1URL: https://datasheet.ciiva.com/48778/1734644-48778297.pdf?src-supplier=Element14; ComponentLink1Description: https://datasheet.ciiva.com/48778/1734644-48778297.pdf?src-supplier=Element14; ComponentLink2URL: https://datasheet.ciiva.com/48778/1734644-48778536.pdf?src-supplier=Element14; ComponentLink2Description: https://datasheet.ciiva.com/48778/1734644-48778536.pdf?src-supplier=Element14; ComponentLink3URL: https://datasheet.ciiva.com/48778/1734644-48778057.pdf?src-supplier=Element14; ComponentLink3Description: https://datasheet.ciiva.com/48778/1734644-48778057.pdf?src-supplier=Element14; Supplier Part Number 1: 1907468
footprint FC-12M (FC-12M - Clock)
pins: 1, 2

## XC8888FFI5VACFXUMA1
designator U?, comment XC888
MCU 8-Bit XC800 8051 CISC 32KB Flash 2.5V/5V 64-Pin LQFP T/R; Manufacturer: Infineon; Manufacturer Part Number: XC8888FFI5VACFXUMA1; RAM Size: 1.75KB; Number of Timers/Counters: 4; Max Supply Voltage: 5.5V; Min Supply Voltage: 2.3V; Interface: UART,USART,SPI; Data Bus Width: 8b; Number of Programmable I/O: 48; Watchdog Timer: Yes; Max Frequency: 24MHz; Operating Supply Voltage: 5V; Peripherals: Brown-out Detect/Reset,POR,PWM,WDT; Oscillator Type: Internal; Core Architecture: 8051; Supplier 1: Digi-Key; RoHS: Yes; Category: Microcontrollers; Pricing 1: 1900=2,88420 (USD); Case/Package: TQFP; Number of Pins: 64; Min Operating Temperature: -40°C; Max Operating Temperature: 85°C; Packaging: Tape and Reel; Memory Type: FLASH; Memory Size: 32KB; Package Quantity: 1900; Series: XC8xx; Halogen Free: Halogen Free; RoHS Compliant: Yes; ComponentLink1URL: https://www.verical.com/server-webapp/html/getDatasheet?partID=753198&src-supplier=Verical; ComponentLink1Description: https://www.verical.com/server-webapp/html/getDatasheet?partID=753198&src-supplier=Verical; ComponentLink2URL: http://components.arrow.com/part/dataview/0323_00171966?src-supplier=Arrow+Europe; ComponentLink2Description: http://components.arrow.com/part/dataview/0323_00171966?src-supplier=Arrow+Europe; ComponentLink3URL: http://components.arrow.com/part/dataview/52118966S8474747N2051?src-supplier=Arrow+Electronics; ComponentLink3Description: http://components.arrow.com/part/dataview/52118966S8474747N2051?src-supplier=Arrow+Electronics; ComponentLink4URL: https://www.infineon.com/dgdl/Infineon-XC88XCLM-DS-v01_02-en.pdf?fileId=db3a304412b407950112b40c4a9e0afb&src-supplier=Digi-Key; ComponentLink4Description: https://www.infineon.com/dgdl/Infineon-XC88XCLM-DS-v01_02-en.pdf?fileId=db3a304412b407950112b40c4a9e0afb&src-supplier=Digi-Key; ComponentLink5URL: http://www.infineon.com/dgdl/Infineon-XC88XCLM-DS-v01_02-en.pdf?fileId=db3a304412b407950112b40c4a9e0afb&ack=t&src-supplier=Avnet+Europe; ComponentLink5Description: http://www.infineon.com/dgdl/Infineon-XC88XCLM-DS-v01_02-en.pdf?fileId=db3a304412b407950112b40c4a9e0afb&ack=t&src-supplier=Avnet+Europe; ComponentLink6URL: http://www.infineon.com/dgdl/Infineon-XC88XCLM-DS-v01_02-en.pdf?fileId=db3a304412b407950112b40c4a9e0afb&ack=t&src-supplier=Avnet; ComponentLink6Description: http://www.infineon.com/dgdl/Infineon-XC88XCLM-DS-v01_02-en.pdf?fileId=db3a304412b407950112b40c4a9e0afb&ack=t&src-supplier=Avnet; Supplier Part Number 1: XC8888FFI5VACFXUMA1TR-ND
footprint XC888 - 3 (XC888 - 64 Pin)
pins: 1 P0.5, 2 P0.6, 3 XTAL2, 4 XTAL1, 5 VSSC, 6 VDDC, 7 VDDP1, 8 P5.0, 9 P5.1, 10 P1.6, 11 P1.7, 12 P5.2, 13 P5.3, 14 P5.4, 15 P5.5, 16 TMS, 17 P0.0, 18 P0.2, 19 P5.6, 20 P5.7, 21 P0.1, 22 P2.0, 23 P2.1, 24 P2.2, 25 VDDP2, 26 VSSP1, 27 P2.3, 28 P2.4, 29 P2.5, 30 P2.6, 31 VAGND, 32 VAREF, 33 P2.7, 34 P1.0, 35 P1.1, 36 P1.2, 37 P1.3, 38 P1.4, 39 P1.5, 40 P4.3, 41 P3.6, 42 P3.7, 43 P3.0, 44 P3.1, 45 P4.4, 46 P4.5, 47 P4.6, 48 P4.7, 49 P3.2, 50 P3.3, 51 P3.4, 52 P3.5, 53 RESET, 54 VSSP2, 55 VDDP3, 56 NC0, 57 NC1, 58 MBC, 59 P4.0, 60 P4.1, 61 P4.2, 62 P0.7, 63 P0.3, 64 P0.4